# EAGLE library part SWD (library SWD_CONNECTOR)
Shrouded male pin header - 0.05" pitch Datasheet: http://cnctech.us/pdfs/3220-XX-0100-00.pdf
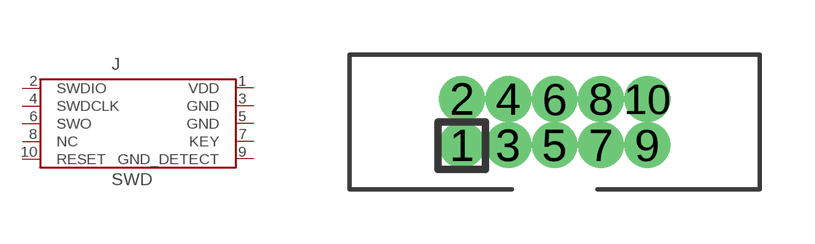
[diagram p0: symbol with the pads of 2X10_BOXHEADER; footprint 2X10_BOXHEADER]

Designator prefix J

## SWD  [2X10_BOXHEADER]
1  VDD
2  SWDIO
3  GND
4  SWDCLK
5  GND
6  SWO
7  KEY
8  NC
9  GND_DETECT
10  RESET

## Footprint 2X10_BOXHEADER (pad centres in mm)
2x10 0.05in shrouded male header
drill 0.75 pad 0.813: 1 -2.54,-0.635; 2 -2.54,0.635; 3 -1.27,-0.635; 4 -1.27,0.635; 5 0,-0.635; 6 0,0.625; 7 1.27,-0.635; 8 1.27,0.635; 9 2.54,-0.635; 10 2.54,0.635